# Altium footprint library Sensor-Transducers-Current.PcbLib: 6 footprints
Each footprint in its own frame and in the unit in brackets; x right, y up, seen from the top. Pads: shape width x height; smd on the part's side, far side on the other; paste and mask are expansions set on the pad; w line width, h text height; cw(c..) or ccw(c..) is an arc to the next point about the centre after c.
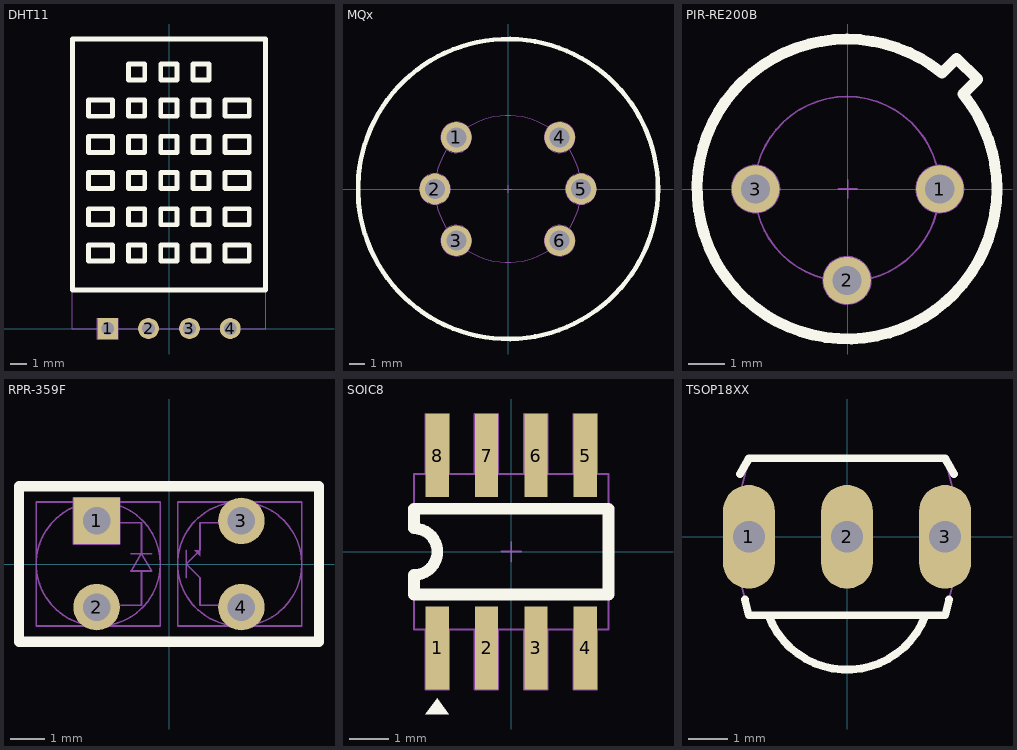
[diagram p0: the footprints below, top view; thin cyan lines are the x and y axes]

## DHT11 [mm]
height 5.5
pads (4):
  rect 1.3x1.3 hole 0.8: 1(-3.81,0)
  round 1.3 hole 0.8: 2(-1.27,0) 3(1.27,0) 4(3.81,0)
Top Overlay:
  lines w0.3: -6,2.4 6,2.4 6,18 -2.5,18 -6,18 -6,2.4 ; -5.01,4.2 -3.51,4.2 -3.51,5.2 -3.82,5.2 -5.01,5.2 -5.01,4.2 ; -5.01,6.45 -3.51,6.45 -3.51,7.45 -3.82,7.45 -5.01,7.45 -5.01,6.45 ; -5.01,8.7 -3.51,8.7 -3.51,9.7 -3.82,9.7 -5.01,9.7 -5.01,8.7 ; -5.01,10.95 -3.82,10.95 -3.51,10.95 -3.51,11.95 -5.01,11.95 -5.01,10.95 ; -5.01,13.2 -3.82,13.2 -3.51,13.2 -3.51,14.2 -5.01,14.2 -5.01,13.2 ; -2.51,4.2 -1.51,4.2 -1.51,5.2 -2.51,5.2 -2.51,4.2 ; -2.51,6.45 -1.51,6.45 -1.51,7.45 -2.51,7.45 -2.51,6.45 ; -2.51,8.7 -1.51,8.7 -1.51,9.7 -2.51,9.7 -2.51,8.7 ; -2.51,10.95 -1.51,10.95 -1.51,11.95 -2.51,11.95 -2.51,10.95 ; -2.51,13.2 -1.51,13.2 -1.51,14.2 -2.51,14.2 -2.51,13.2 ; -2.51,15.45 -1.51,15.45 -1.51,16.45 -2.51,16.45 -2.51,15.45 ; -0.51,4.2 0.49,4.2 0.49,5.2 -0.51,5.2 -0.51,4.2 ; -0.51,6.45 0.49,6.45 0.49,7.45 -0.51,7.45 -0.51,6.45 ; -0.51,8.7 0.49,8.7 0.49,9.7 -0.51,9.7 -0.51,8.7 ; -0.51,10.95 0.49,10.95 0.49,11.95 -0.51,11.95 -0.51,10.95 ; -0.51,13.2 0.49,13.2 0.49,14.2 -0.51,14.2 -0.51,13.2 ; -0.51,15.45 0.49,15.45 0.49,16.45 -0.51,16.45 -0.51,15.45 ; 1.49,4.2 2.49,4.2 2.49,5.2 1.49,5.2 1.49,4.2 ; 1.49,6.45 2.49,6.45 2.49,7.45 1.49,7.45 1.49,6.45 ; 1.49,8.7 2.49,8.7 2.49,9.7 1.49,9.7 1.49,8.7 ; 1.49,10.95 2.49,10.95 2.49,11.95 1.49,11.95 1.49,10.95 ; 1.49,13.2 2.49,13.2 2.49,14.2 1.49,14.2 1.49,13.2 ; 1.49,15.45 2.49,15.45 2.49,16.45 1.49,16.45 1.49,15.45 ; 3.49,4.2 4.99,4.2 4.99,5.2 3.49,5.2 3.49,4.2 ; 3.49,6.45 4.99,6.45 4.99,7.45 3.49,7.45 3.49,6.45 ; 3.49,8.7 4.99,8.7 4.99,9.7 3.49,9.7 3.49,8.7 ; 3.49,10.95 4.99,10.95 4.99,11.95 3.49,11.95 3.49,10.95 ; 3.49,13.2 4.99,13.2 4.99,14.2 3.49,14.2 3.49,13.2
Top HCB:
  circle w0.05: c1.27,0 r0.6
  circle w0.05: c-1.27,0 r0.6
  circle w0.05: c3.81,0 r0.6
  lines w0.05: -4.46,0 -6,0 -6,18 -2.5,18 6,18 6,0 4.41,0 ; -3.16,0 -1.87,0 ; -0.67,0 -0.5,0 0.67,0 ; 1.87,0 3.21,0 ; -5.01,4.2 -5.01,5.2 -3.82,5.2 -3.51,5.2 -3.51,4.2 -5.01,4.2 ; -5.01,6.45 -5.01,7.45 -3.82,7.45 -3.51,7.45 -3.51,6.45 -5.01,6.45 ; -5.01,8.7 -5.01,9.7 -3.82,9.7 -3.51,9.7 -3.51,8.7 -5.01,8.7 ; -5.01,10.95 -5.01,11.95 -3.51,11.95 -3.51,10.95 -3.82,10.95 -5.01,10.95 ; -5.01,13.2 -5.01,14.2 -3.51,14.2 -3.51,13.2 -3.82,13.2 -5.01,13.2 ; -4.46,-0.65 -4.46,0.65 -3.16,0.65 -3.16,-0.65 -4.46,-0.65 ; -2.51,4.2 -2.51,5.2 -1.51,5.2 -1.51,4.2 -2.51,4.2 ; -2.51,6.45 -2.51,7.45 -1.51,7.45 -1.51,6.45 -2.51,6.45 ; -2.51,8.7 -2.51,9.7 -1.51,9.7 -1.51,8.7 -2.51,8.7 ; -2.51,10.95 -2.51,11.95 -1.51,11.95 -1.51,10.95 -2.51,10.95 ; -2.51,13.2 -2.51,14.2 -1.51,14.2 -1.51,13.2 -2.51,13.2 ; -2.51,15.45 -2.51,16.45 -1.51,16.45 -1.51,15.45 -2.51,15.45 ; -0.51,4.2 -0.51,5.2 0.49,5.2 0.49,4.2 -0.51,4.2 ; -0.51,6.45 -0.51,7.45 0.49,7.45 0.49,6.45 -0.51,6.45 ; -0.51,8.7 -0.51,9.7 0.49,9.7 0.49,8.7 -0.51,8.7 ; -0.51,10.95 -0.51,11.95 0.49,11.95 0.49,10.95 -0.51,10.95 ; -0.51,13.2 -0.51,14.2 0.49,14.2 0.49,13.2 -0.51,13.2 ; -0.51,15.45 -0.51,16.45 0.49,16.45 0.49,15.45 -0.51,15.45 ; 1.49,4.2 1.49,5.2 2.49,5.2 2.49,4.2 1.49,4.2 ; 1.49,6.45 1.49,7.45 2.49,7.45 2.49,6.45 1.49,6.45 ; 1.49,8.7 1.49,9.7 2.49,9.7 2.49,8.7 1.49,8.7 ; 1.49,10.95 1.49,11.95 2.49,11.95 2.49,10.95 1.49,10.95 ; 1.49,13.2 1.49,14.2 2.49,14.2 2.49,13.2 1.49,13.2 ; 1.49,15.45 1.49,16.45 2.49,16.45 2.49,15.45 1.49,15.45 ; 3.49,4.2 3.49,5.2 4.99,5.2 4.99,4.2 3.49,4.2 ; 3.49,6.45 3.49,7.45 4.99,7.45 4.99,6.45 3.49,6.45 ; 3.49,8.7 3.49,9.7 4.99,9.7 4.99,8.7 3.49,8.7 ; 3.49,10.95 3.49,11.95 4.99,11.95 4.99,10.95 3.49,10.95 ; 3.49,13.2 3.49,14.2 4.99,14.2 4.99,13.2 3.49,13.2
  text "2" at -1.501,-0.374 h1
  text "3" at 1.034,-0.374 h1
  text "4" at 3.574,-0.366 h1
  text "1" at -4.051,-0.366 h1
3D body "User Library-DHT11-right.STEP": height 5.7, standoff -2.4, extent -6.01,-0.4 5.99,18.1

## MQx [mm]
height 23
pads (6):
  round 2 hole 1.3: 1(-3.359,3.359) 2(-4.75,0) 3(-3.359,-3.359) 4(3.359,3.359) 5(4.75,0) 6(3.359,-3.359)
Top Overlay:
  circle w0.3: c0,0 r9.75
Top HCB:
  circle w0.05: c0,0 r9.75
  circle w0.05: c4.733,0 r1
  circle w0.05: c-4.75,0 r1
  circle w0.05: c3.359,3.359 r1
  circle w0.05: c3.359,-3.359 r1
  circle w0.05: c-3.359,3.359 r1
  circle w0.05: c-3.359,-3.359 r1
  lines w0.05: -4.642,-1.009 ccw(c0,0) -3.999,-2.563 ; -4.642,1.009 cw(c0,0) -3.999,2.563 ; -2.6,-4 ccw(c0,0) 2.6,-4 ; -2.6,4 cw(c0,0) 2.6,4 ; -0.25,0 -0.25,-0.001 0.25,-0.001 ; 0,-0.25 0,0.25 ; 3.999,-2.563 ccw(c0,0) 4.642,-1.009 ; 3.999,2.563 cw(c0,0) 4.642,1.009
  text "H" at 4.4,-0.3 h1
  text "H" at -4.417,0.305 h1
  text "B" at 3.026,3.06 h1
  text "B" at 3.1,-3.7 h1
  text "A" at -3.676,3.054 h1
  text "A" at -3.75,-3.7 h1
3D body "cb2.STEP": height 16.5, standoff -6, extent -10,-10 10,10

## PIR-RE200B [mm]
height 18
pads (3):
  round 1.3 hole 0.8: 1(2.52,0) 2(-0.02,-2.5) 3(-2.52,0)
Top Overlay:
  lines w0.3: 2.578,3.172 ccw(c-0.02,0) 3.152,2.598 ; 2.58,3.175 2.98,3.575 3.546,3.009 ; 3.155,2.6 3.555,3
Top HCB:
  circle w0.05: c-2.52,0 r0.65
  circle w0.05: c-0.02,-2.5 r0.65
  circle w0.05: c2.52,0 r0.65
  lines w0.05: -2.464,-0.648 ccw(c-0.02,0) -0.656,-2.447 ; -2.464,0.654 cw(c-0.02,0) 2.425,0.65 ; -0.25,0 0.25,0 ; 0,-0.25 0,0.25 ; 0.625,-2.45 ccw(c-0.02,0) 2.43,-0.644 ; 3.546,3.009 2.98,3.575 2.58,3.175 ccw(c-0.02,0) 3.155,2.6 3.555,3
  text "3" at -2.713,-0.311 h1
  text "1" at 2.325,-0.35 h1
  text "2" at -0.218,-2.805 h1
3D body "User Library-PIR_S_Orginal.STEP": height 4.9, standoff -1.8, extent -4.6,-4.55 4.5,4.55

## RPR-359F [mm]
height 17.8
pads (4):
  rect 1.35x1.35 hole 0.8: 1(-2.1,1.25)
  round 1.35 hole 0.8: 2(-2.1,-1.25) 3(2.1,1.25) 4(2.1,-1.25)
Top Overlay:
  lines w0.3: -4.35,-2.25 4.35,-2.25 4.35,2.25 -4.35,2.25 -4.35,-2.25
Top HCB:
  circle w0.05: c-2.05,0 r1.8
  circle w0.05: c-2.05,0 r1.8
  circle w0.05: c2.05,0 r1.8
  circle w0.05: c2.05,0 r1.8
  circle w0.05: c2.1,1.25 r0.6
  circle w0.05: c2.1,-1.25 r0.6
  circle w0.05: c-2.05,-1.25 r0.6
  region: 0.9,0.4 0.725,0.4 0.9,0.225
  lines w0.05: -1.4,-1.2 -0.8,-1.2 -0.8,-0.2 ; -1.4,1.2 -0.8,1.2 -0.8,0.85 -0.8,0.3 ; -1.1,0.3 -0.5,0.3 ; 0.5,-0.4 0.5,0.4 ; 1.5,1.2 0.9,1.2 0.9,0.4 ; 1.502,-1.2 0.9,-1.2 0.9,-0.4 0.5,0 ; -3.85,-1.8 -0.25,-1.8 ; -3.85,-1.8 -0.25,-1.8 ; -3.85,-1.8 -3.85,1.8 ; -3.85,-1.8 -3.85,1.8 ; -3.85,1.8 -0.25,1.8 ; -3.85,1.8 -0.25,1.8 ; -0.8,0.3 -1.1,-0.2 -0.5,-0.2 -0.8,0.3 ; -0.25,-1.8 -0.25,1.8 ; -0.25,-1.8 -0.25,1.8 ; 0.25,-1.8 3.85,-1.8 ; 0.25,-1.8 3.85,-1.8 ; 0.25,-1.8 0.25,1.8 ; 0.25,-1.8 0.25,1.8 ; 0.25,1.8 3.85,1.8 ; 0.25,1.8 3.85,1.8 ; 0.5,0 0.9,0.4 ; 0.5,0 0.9,0.4 ; 3.85,-1.8 3.85,1.8 ; 3.85,-1.8 3.85,1.8 ; -4.35,-2.25 4.35,-2.25 4.35,2.25 -4.35,2.25 -4.35,-2.25 ; -2.775,0.575 -1.425,0.575 -1.425,1.925 -2.775,1.925 -2.775,0.575
  text "C" at 1.76,0.875 h1.2
  text "E" at 1.774,-1.624 h1.2
  text "K" at -2.465,0.875 h1.2
  text "A" at -2.431,-1.617 h1.2
3D body "rpr359f.STEP": height 6.2, standoff -13.6, extent -4.35,-2.25 4.35,2.25

## SOIC8 [mm] "SOIC8"
height 1.75
pads (8):
  rect 0.6x2.135 smd paste+0.1: 1(-1.905,-2.47) 2(-0.635,-2.47) 3(0.635,-2.47) 4(1.905,-2.47) 5(1.905,2.47) 6(0.635,2.47) 7(-0.635,2.47) 8(-1.905,2.47)
Top Overlay:
  region: -1.905,-3.77 -2.205,-4.17 -1.605,-4.17
  lines w0.3: -2.5,-1.1 -2.5,-0.6 ccw(c-2.5,0) -2.5,0.6 -2.5,1.1 2.5,1.1 2.5,-1.1 -2.5,-1.1
Top HCB:
  lines w0.05: -2.205,-2 -2.205,-3.537 -1.605,-3.537 -1.605,-2 ; -2.205,2 -2.205,3.537 -1.605,3.537 -1.605,2 ; -0.94,-2 -0.94,-3.537 -0.34,-3.537 -0.34,-2 ; -0.94,2 -0.94,3.537 -0.34,3.537 -0.34,2 ; -0.25,0 0,0 0.25,0 ; 0,-0.25 0,0.25 ; 0.33,-2 0.33,-3.537 0.93,-3.537 0.93,-2 ; 0.33,2 0.33,3.537 0.93,3.537 0.93,2 ; 1.6,-2 1.6,-3.537 2.2,-3.537 2.2,-2 ; 1.6,2 1.6,3.537 2.2,3.537 2.2,2 ; -2.5,-2 -2.5,-0.64 ccw(c-2.5,0) -2.5,0.64 -2.5,2 2.5,2 2.5,-2 -2.5,-2
  text "4" at 1.708,-1.905 h1
  text "5" at 1.708,1.305 h1
  text "1" at -2.099,-1.905 h1
  text "8" at -2.099,1.3 h1
3D body "lm393ad.stp": height 1.73, standoff 0, extent -2.401,-3.011 2.5,3.011

## TSOP18XX [mil] "SENSOR REMOTE REC 38.0KHZ 45M"
pads (3):
  oval 52x104 hole 32: 1(-98.43,0) 2(0,0) 3(98.43,0)
Top Overlay:
  lines w7.87: -107.35,62.94 -98.43,78.74 98.43,78.74 107.35,62.94 ; -102.36,-62.99 -98.43,-78.74 -78.74,-78.74 78.74,-78.74 98.43,-78.74 102.36,-62.99 ; -78.51,-79.35 ccw(c0,-49.21) 78.51,-79.35
Top HCB:
  lines w1.97: -78.51,-79.35 ccw(c0,-49.21) 78.51,-79.35 ; -118.11,0 -98.43,78.74 98.43,78.74 118.11,0 98.43,-78.74 78.74,-78.74 -78.74,-78.74 -98.43,-78.74 -118.11,0
  text "1" at -103.07,-12.67 h39.37
  text "2" at -8.39,-12.67 h39.37
  text "3" at 90.19,-12.46 h39.37
3D body "tsop4838.STEP": height 333.63, standoff -130.08, extent -117.03,-161.46 119.13,59.01